# Altium footprint library 35RAPC5CHWNSN.PcbLib: 1 footprints
Each footprint in its own frame and in the unit in brackets; x right, y up, seen from the top. Pads: shape width x height; smd on the part's side, far side on the other; paste and mask are expansions set on the pad; w line width, h text height; cw(c..) or ccw(c..) is an arc to the next point about the centre after c.
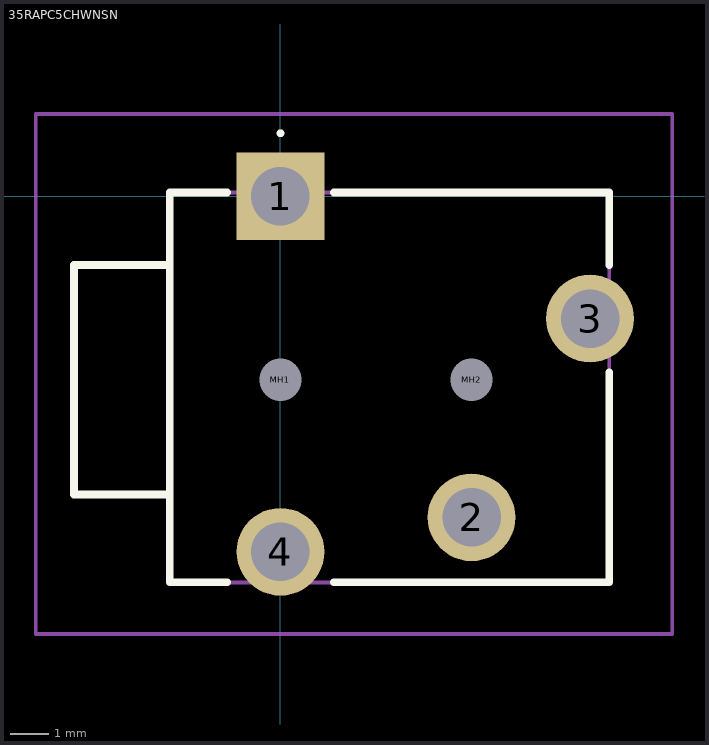
[diagram p0: the footprint, top view; thin cyan lines are the x and y axes]

## 35RAPC5CHWNSN [mm]
pads (6):
  rect 2.295x2.295 hole 1.53: 1(0,0)
  round 2.295 hole 1.53: 2(5,-8.4) 3(8.1,-3.2) 4(0,-9.3)
  round 0.55 hole 1.1 unplated: MH1(0,-4.8) MH2(5,-4.8)
Top Overlay:
  lines w0.1: 0,1.6 0,1.6 ; 0,1.6 ccw(c0,1.65) 0,1.7 ; 0,1.6 cw(c0,1.65) 0,1.7 ; 0,1.7 0,1.7
  lines w0.2: -1.4,-10.1 -2.9,-10.1 -2.9,0.1 -1.4,0.1 ; 1.4,-10.1 8.6,-10.1 8.6,-4.6 ; 1.4,0.1 8.6,0.1 8.6,-1.8 ; -5.4,-7.8 -2.9,-7.8 -2.9,-1.8 -5.4,-1.8 -5.4,-7.8
Mechanical 15:
  lines w0.1: -5.4,-7.8 -2.9,-7.8 -2.9,-1.8 -5.4,-1.8 -5.4,-7.8 ; -2.9,-10.1 8.6,-10.1 8.6,0.1 -2.9,0.1 -2.9,-10.1
Mechanical 20:
  lines w0.1: -6.4,-11.447 10.247,-11.447 10.247,2.148 -6.4,2.148 -6.4,-11.447